# Altium integrated library LIS344ALH.IntLib: 1 symbol
Pins are listed as number, name and electrical type; pins without a type are passive.

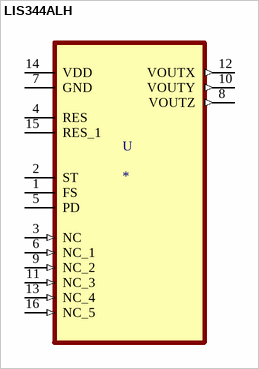
[diagram p0: symbol LIS344ALH]

## LIS344ALH
designator U
Accelerometer X, Y, Z Axis Â±2g, 6g 1.8kHz 16-LGA _4x4_; MP: LIS344ALH; MF: STMicroelectronics; SnapEDA_Link: https://www.snapeda.com/parts/LIS344ALH/STMicroelectronics/view-part/174553/?ref=snap; Digi-Key_Purchase_URL: https://www.digikey.com.cn/product-detail/zh/stmicroelectronics/LIS344ALHTR/497-6345-2-ND/1816638?utm_source=snapeda&utm_medium=aggregator&utm_campaign=symbol; Digi-Key_Part_Number: 497-6345-2-ND; Package: LGA-16 STMicroelectronics; Value: *
footprint LGA16R65P4X4_400X400X160
pins: 1 FS, 2 ST, 3 NC (in), 4 RES, 5 PD, 6 NC_1 (in), 7 GND, 8 VOUTZ (out), 9 NC_2 (in), 10 VOUTY (out), 11 NC_3 (in), 12 VOUTX (out), 13 NC_4 (in), 14 VDD (power), 15 RES_1, 16 NC_5 (in)